# Altium footprint library MicroSD.PcbLib: 1 footprints
Each footprint in its own frame and in the unit in brackets; x right, y up, seen from the top. Pads: shape width x height; smd on the part's side, far side on the other; paste and mask are expansions set on the pad; w line width, h text height; cw(c..) or ccw(c..) is an arc to the next point about the centre after c.
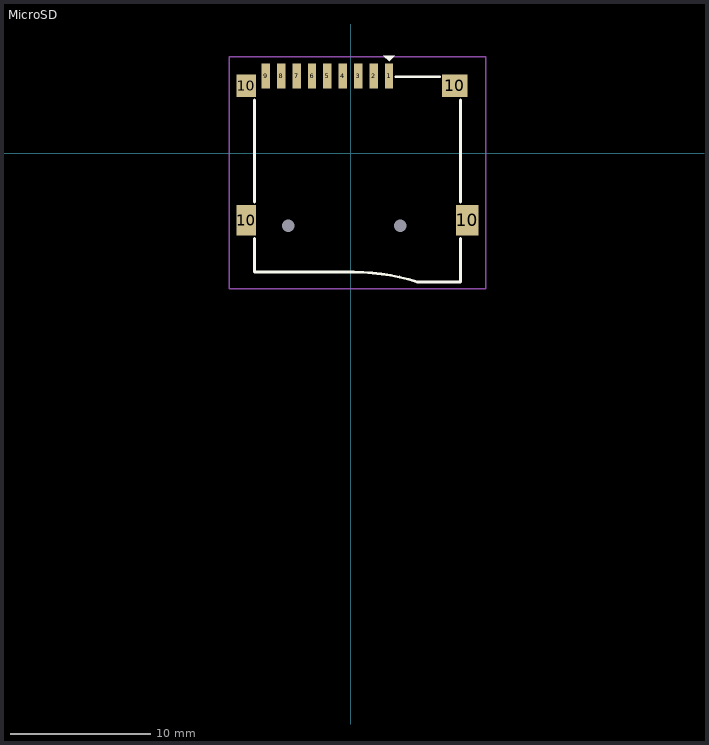
[diagram p0: the footprint, top view; thin cyan lines are the x and y axes]

## MicroSD [mm]
pads (15):
  round 0 hole 0.9: 0(-4.45,-5.2) 0(3.55,-5.2)
  rect 0.6x1.8 smd: 1(2.75,5.5) 2(1.65,5.5) 3(0.55,5.5) 4(-0.55,5.5) 5(-1.65,5.5) 6(-2.75,5.5) 7(-3.85,5.5) 8(-4.95,5.5) 9(-6.05,5.5)
  rect 1.4x2.2 smd: 10(-7.45,-4.8)
  rect 1.4x1.6 smd: 10(-7.45,4.8)
  rect 1.8x1.6 smd: 10(7.45,4.8)
  rect 1.6x2.2 smd: 10(8.35,-4.8)
Top Overlay:
  region: 2.35,6.95 3.15,6.95 2.75,6.55
  lines w0.2: -6.85,-6.1 -6.85,-8.5 0.25,-8.5 ; -6.85,-3.5 -6.85,3.8 ; 0.248,-8.5 cw(c0.248,-23.5) 4.771,-9.198 ; 3.25,5.45 6.35,5.45 ; 4.771,-9.2 7.85,-9.2 7.85,-6.1 ; 7.85,-3.5 7.85,3.8
Top Courtyard:
  lines w0.1: -8.65,-9.7 -8.65,6.9 9.65,6.9 9.65,-9.7 -7.55,-9.7 -8.65,-9.7
3D body "User Library-112J-TXAR-R_C_1-1.step": height 1.85, standoff -0.6, extent -7.55,-9.2 8.55,5.803